# Altium schematic symbol library PMOD_KYPD.SchLib: 1 symbol
Pins are listed as number, name and electrical type; pins without a type are passive.

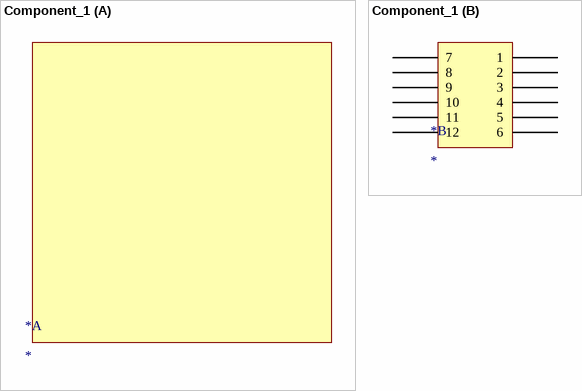
[diagram p0: symbol Component_1]

## Component_1
designator *
part B pins: COL1 4, COL2 3, COL3 2, COL4 1, GND 5, GND 11, ROW1 10, ROW2 9, ROW3 8, ROW4 7, VCC 6, VCC 12